# EAGLE library part MRF24WB0MA (library javimontero)
Microchip WIFI module MRF24WB0MB/RM Mouser 579-MRF24WB0MBRM <http://es.mouser.com/Search/ProductDetail.aspx?R=MRF24WB0MB/RMvirtualkey57940000virtualkey579-MRF24WB0MBRM>
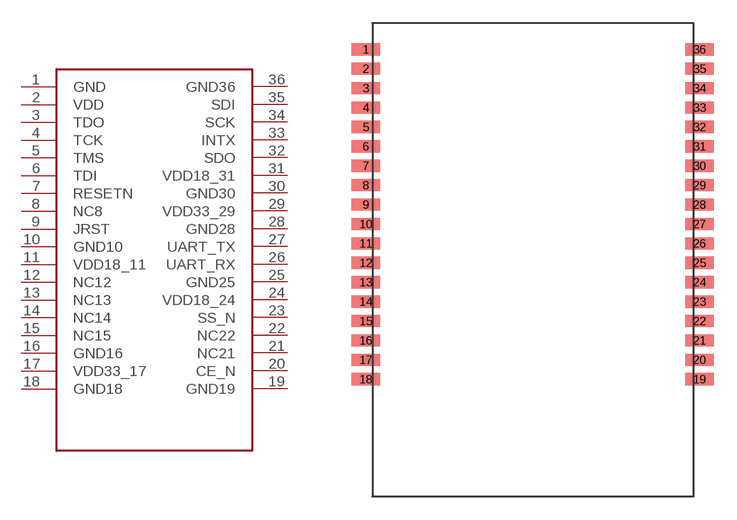
[diagram p0: symbol with the pads of MRF24WB0MA; footprint MRF24WB0MA]

Designator prefix -

## MRF24WB0MA  [MRF24WB0MA]
1  GND
2  VDD
3  TDO
4  TCK
5  TMS
6  TDI
7  RESETN
8  NC8
9  JRST
10  GND10
11  VDD18_11
12  NC12
13  NC13
14  NC14
15  NC15
16  GND16
17  VDD33_17
18  GND18
19  GND19
20  CE_N
21  NC21
22  NC22
23  SS_N
24  VDD18_24
25  GND25
26  UART_RX
27  UART_TX
28  GND28
29  VDD33_29
30  GND30
31  VDD18_31
32  SDO
33  INTX
34  SCK
35  SDI
36  GND36

## Footprint MRF24WB0MA (pad centres in mm)
smd 1.85 x 0.8: 1 -0.425,29.27; 2 -0.425,28; 3 -0.425,26.73; 4 -0.425,25.46; 5 -0.425,24.19; 6 -0.425,22.92; 7 -0.425,21.65; 8 -0.425,20.38; 9 -0.425,19.11; 10 -0.425,17.84; 11 -0.425,16.57; 12 -0.425,15.3; 13 -0.425,14.03; 14 -0.425,12.76; 15 -0.425,11.49; 16 -0.425,10.22; 17 -0.425,8.95; 18 -0.425,7.68; 19 21.405,7.68; 20 21.405,8.95; 21 21.405,10.22; 22 21.405,11.49; 23 21.405,12.76; 24 21.405,14.03; 25 21.405,15.3; 26 21.405,16.57; 27 21.405,17.84; 28 21.405,19.11; 29 21.405,20.38; 30 21.405,21.65; 31 21.405,22.92; 32 21.405,24.19; 33 21.405,25.46; 34 21.405,26.73; 35 21.405,28; 36 21.405,29.27